# Altium footprint library 0402CS-5N6XJLU.PcbLib: 2 footprints
Each footprint in its own frame and in the unit in brackets; x right, y up, seen from the top. Pads: shape width x height; smd on the part's side, far side on the other; paste and mask are expansions set on the pad; w line width, h text height; cw(c..) or ccw(c..) is an arc to the next point about the centre after c.
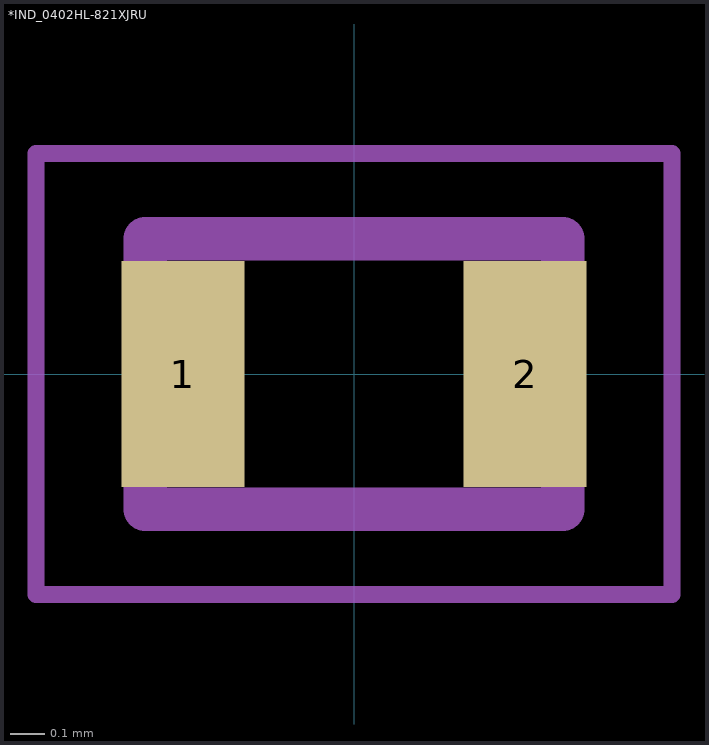
[diagram p0: the footprints below, top view; thin cyan lines are the x and y axes]

## *IND_0402HL-821XJRU [mm]
pads (2):
  rect 0.36x0.66 smd: 1(-0.5,0) 2(0.5,0)
Mechanical 4:
  lines w0.127: -0.61,-0.395 -0.61,0.395 ; -0.61,-0.395 0.61,-0.395 ; -0.61,-0.395 -0.61,0.395 ; -0.61,-0.395 0.61,-0.395 ; -0.61,0.395 0.61,0.395 ; -0.61,0.395 0.61,0.395 ; 0.61,-0.395 0.61,0.395 ; 0.61,-0.395 0.61,0.395
Mechanical 16:
  lines w0.05: -0.93,-0.645 -0.93,0.645 0.93,0.645 0.93,-0.645 -0.93,-0.645

## PCBComponent_1 [mm]